# Altium schematic symbol library ICs-LinearRegulators.SchLib: 2 symbols
Pins are listed as number, name and electrical type; pins without a type are passive.

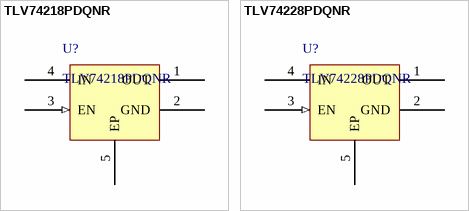
[diagram p0: symbols TLV74218PDQNR to TLV74228PDQNR]

## TLV74218PDQNR
designator U?
LDO Voltage Regulators 200mA Small-Size Low-Dropout (LDO) Linear Voltage Regulator 4-X2SON -40 to 125; Manufacturer: Texas Instruments; PartNumber: TLV74218PDQNR; PackageReference: X2SON-4; Mounting Technology: Surface Mount
footprint X2SON-4
pins: 1 OUT (power), 2 GND (power), 3 EN (in), 4 IN (power), 5 EP (power)

## TLV74228PDQNR
designator U?
LDO Voltage Regulators 200mA Small-Size Low-Dropout (LDO) Linear Voltage Regulator 4-X2SON -40 to 125; Manufacturer: Texas Instruments; PartNumber: TLV74218PDQNR; PackageReference: X2SON-4; Mounting Technology: Surface Mount
footprint X2SON-4
pins: 1 OUT (power), 2 GND (power), 3 EN (in), 4 IN (power), 5 EP (power)